# Altium schematic symbol library ZenerDiode.SchLib: 1 symbol
Pins are listed as number, name and electrical type; pins without a type are passive.

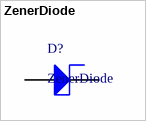
[diagram p0: symbol ZenerDiode]

## ZenerDiode
designator D?
pins: 1 K, 2 A